# EAGLE library part PCA9536 (library brewbox-components)
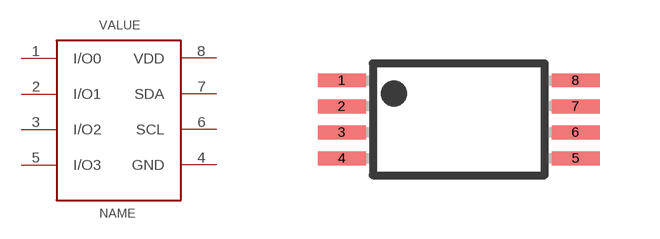
[diagram p8: symbol with the pads of TSSOP8; footprint TSSOP8]

Designator prefix -

## PCA9536  [TSSOP8]
1  I/O0
2  I/O1
3  I/O2
4  GND  pwr
5  I/O3
6  SCL
7  SDA
8  VDD  pwr

## Footprint TSSOP8 (pad centres in mm)
Plastic Small Outline
smd 1.2 x 0.35: 1 -2.925,0.975; 2 -2.925,0.325; 3 -2.925,-0.325; 4 -2.925,-0.975; 5 2.925,-0.975; 6 2.925,-0.325; 7 2.925,0.325; 8 2.925,0.975